# EAGLE library part CMI1-24 (library electronic-labs)
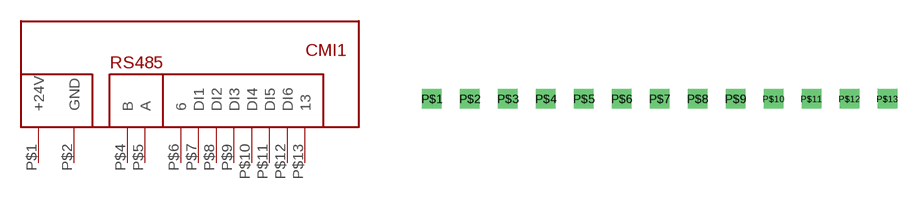
[diagram p6: symbol with the pads of CMI1; footprint CMI1]

Designator prefix -

## CMI1-24  [CMI1]
P$1  +24V  pwr
P$2  GND
P$4  B
P$5  A
P$6  6
P$7  DI1
P$8  DI2
P$9  DI3
P$10  DI4
P$11  DI5
P$12  DI6
P$13  13

## Footprint CMI1 (pad centres in mm)
drill 0.8 square: P$1 -11.43,2.54; P$2 -8.89,2.54; P$3 -6.35,2.54; P$4 -3.81,2.54; P$5 -1.27,2.54; P$6 1.27,2.54; P$7 3.81,2.54; P$8 6.35,2.54; P$9 8.89,2.54; P$10 11.43,2.54; P$11 13.97,2.54; P$12 16.51,2.54; P$13 19.05,2.54